# Altium footprint library LB P4SG.PcbLib: 1 footprints
Each footprint in its own frame and in the unit in brackets; x right, y up, seen from the top. Pads: shape width x height; smd on the part's side, far side on the other; paste and mask are expansions set on the pad; w line width, h text height; cw(c..) or ccw(c..) is an arc to the next point about the centre after c.
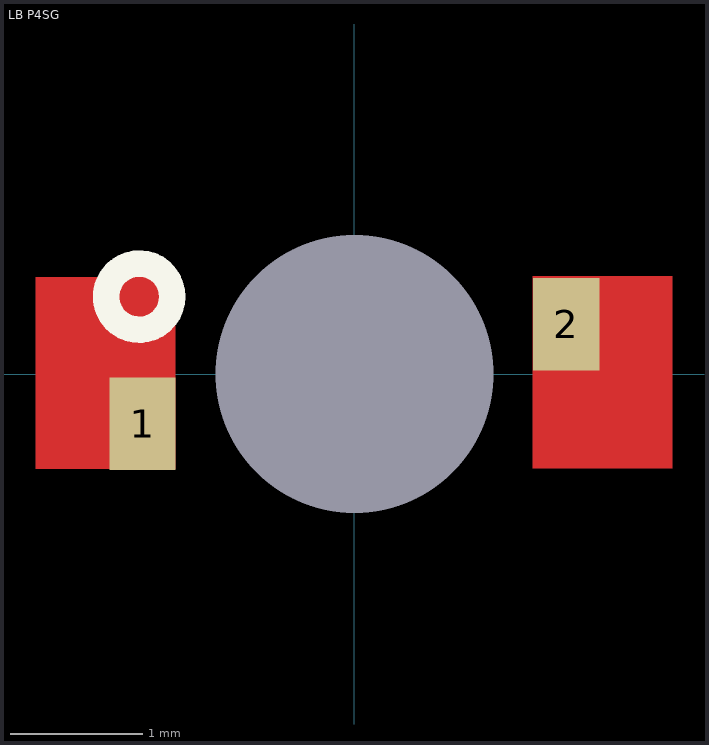
[diagram p0: the footprint, top view; thin cyan lines are the x and y axes]

## LB P4SG [mm] "Footprint for a reverse-mount Osram LED"
pads (3):
  rect 0.5x0.7 smd mask+0.102: 1(-1.6,-0.375) 2(1.6,0.375)
  round 0.7 hole 2.1 unplated: ""(0,0)
Top Layer:
  region: -2.406,-0.717 -1.353,-0.717 -1.353,0.731 -2.406,0.731
  region: 1.346,-0.711 2.4,-0.711 2.4,0.737 1.346,0.737
Top Overlay:
  circle w0.2: c-1.626,0.584 r0.25